# Altium schematic symbol library LED_603.SchLib: 3 symbols
Pins are listed as number, name and electrical type; pins without a type are passive.

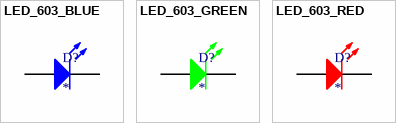
[diagram p0: symbols LED_603_BLUE to LED_603_RED]

## LED_603_BLUE
designator D?
footprint LED_603
pins: 1 A, 2 K

## LED_603_GREEN
designator D?
footprint LED_603
pins: 1 A, 2 K

## LED_603_RED
designator D?
footprint LED_603
pins: 1 A, 2 K